# Altium footprint library resistor0402(footprint).PcbLib: 1 footprints
Each footprint in its own frame and in the unit in brackets; x right, y up, seen from the top. Pads: shape width x height; smd on the part's side, far side on the other; paste and mask are expansions set on the pad; w line width, h text height; cw(c..) or ccw(c..) is an arc to the next point about the centre after c.
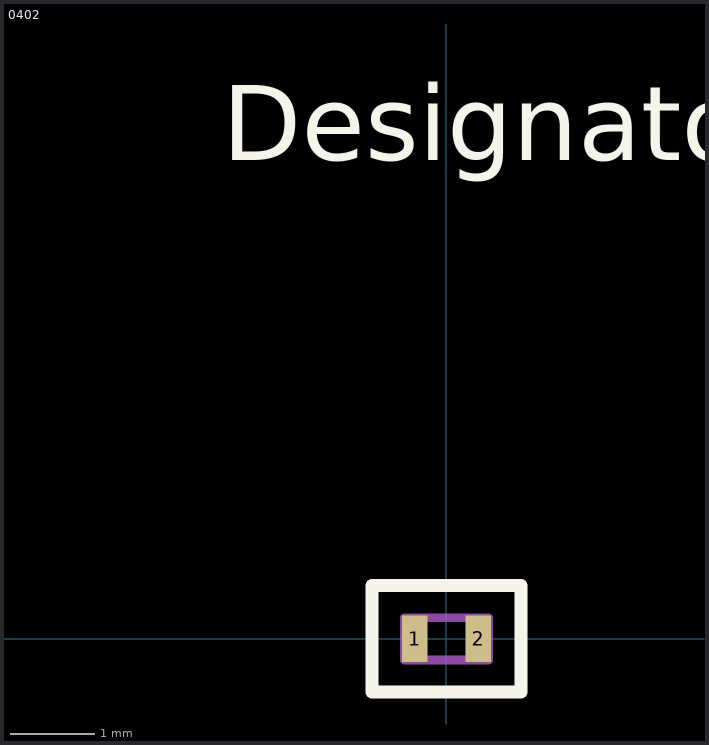
[diagram p0: the footprint, top view; thin cyan lines are the x and y axes]

## 0402 [mm] "RES 10K OHM 5% 1/16W 0402"
height 0.35
pads (2):
  rect 0.3x0.55 smd mask+0.076: 1(-0.375,0) 2(0.375,0)
Top Overlay:
  lines w0.152: -0.881,-0.631 -0.881,0.631 0.881,0.631 0.881,-0.631 -0.881,-0.631
  text "Designator" at -2.65,5.375 h1.52
Mechanical 13:
  lines w0.102: -0.5,-0.25 0.5,-0.25 0.5,0.25 -0.5,0.25 -0.5,-0.25
  text "Designator." at -0.765,0.913 h0.3